# Altium schematic symbol library Power_Management.SchLib: 221 symbols (part 1 of 2)
Pins are listed as number, name and electrical type; pins without a type are passive.

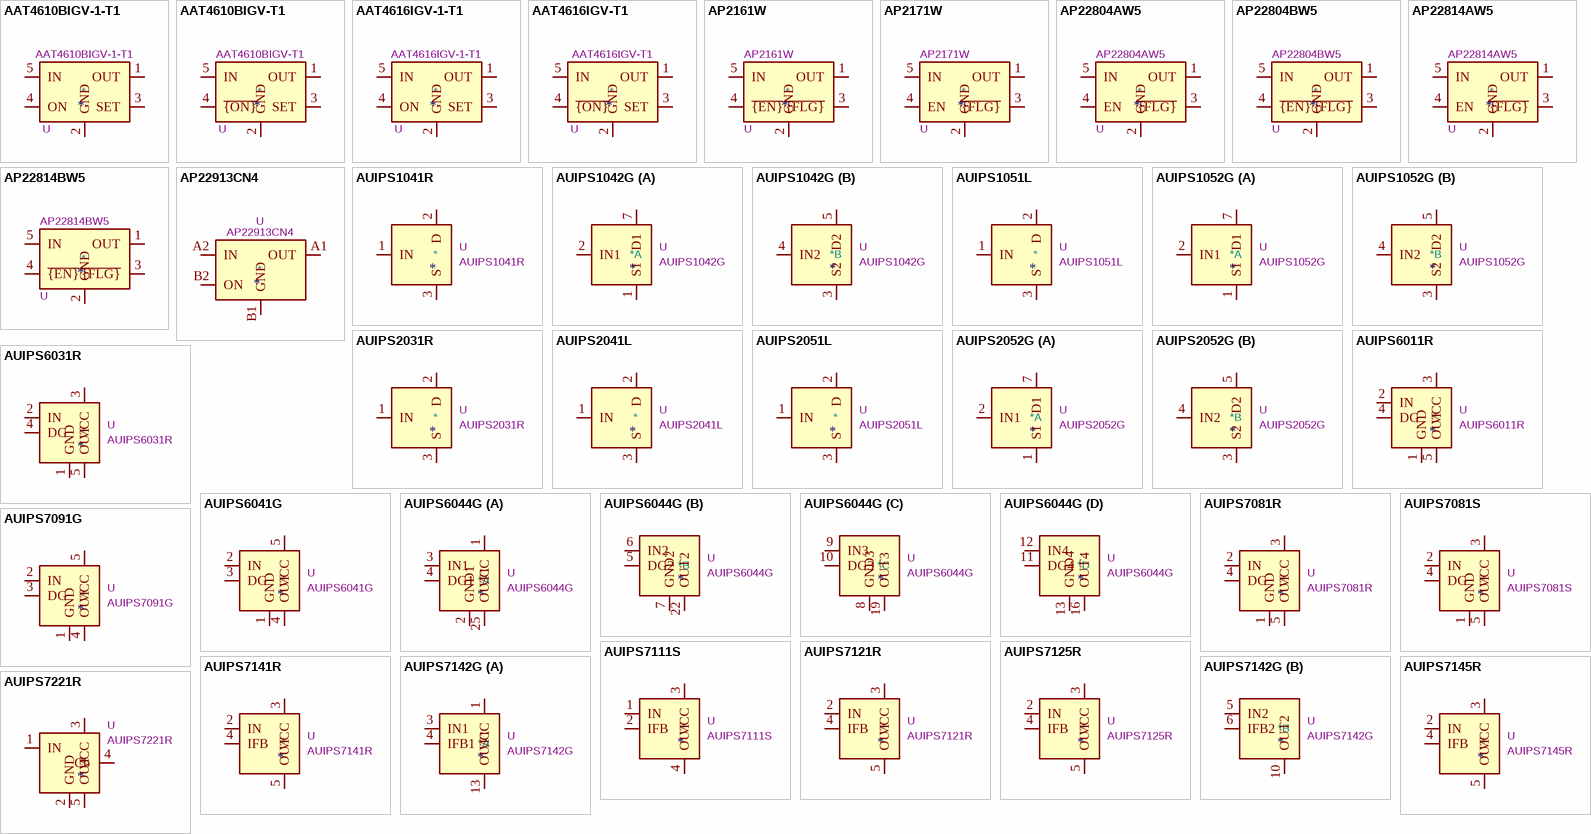
[diagram p0: symbols AAT4610BIGV-1-T1 to AUIPS7221R]

## AAT4610BIGV-1-T1
designator *  value AAT4610BIGV-1-T1  Reference: U
ki_keywords: Limit USB Active High; ki_description: Current Limited Load Switch, SOT-23-5; ki_fp_filters: SOT?23*; Footprint: Package_TO_SOT_SMD:SOT-23-5; Datasheet: http://www.skyworksinc.com/uploads/documents/201937A.pdf
pins: 1 OUT, 2 GND, 3 SET, 4 ON, 5 IN

## AAT4610BIGV-T1
designator *  value AAT4610BIGV-T1  Reference: U
ki_keywords: Limit USB Active Low; ki_description: Current Limited Load Switch, SOT-23-5; ki_fp_filters: SOT?23*; Footprint: Package_TO_SOT_SMD:SOT-23-5; Datasheet: http://www.skyworksinc.com/uploads/documents/201937A.pdf
pins: 1 OUT, 2 GND, 3 SET, 4 ~{{ON}}, 5 IN

## AAT4616IGV-1-T1
designator *  value AAT4616IGV-1-T1  Reference: U
ki_keywords: Limit USB Active High; ki_description: Adjustable Current Limited Load Switch, SOT-23-5; ki_fp_filters: SOT?23*; Footprint: Package_TO_SOT_SMD:SOT-23-5; Datasheet: http://www.skyworksinc.com/uploads/documents/AAT4616_201940E.pdf
pins: 1 OUT, 2 GND, 3 SET, 4 ON, 5 IN

## AAT4616IGV-T1
designator *  value AAT4616IGV-T1  Reference: U
ki_keywords: Limit USB Active Low; ki_description: Adjustable Current Limited Load Switch, SOT-23-5; ki_fp_filters: SOT?23*; Footprint: Package_TO_SOT_SMD:SOT-23-5; Datasheet: http://www.skyworksinc.com/uploads/documents/AAT4616_201940E.pdf
pins: 1 OUT, 2 GND, 3 SET, 4 ~{{ON}}, 5 IN

## AP2161W
designator *  value AP2161W  Reference: U
ki_keywords: Limit USB Active Low; ki_description: Current limited power switch, single channel, SOT-23-5; ki_fp_filters: SOT?23*; Footprint: Package_TO_SOT_SMD:SOT-23-5; Datasheet: https://www.diodes.com/assets/Datasheets/AP2161.pdf
pins: 1 OUT, 2 GND, 3 ~{{FLG}}, 4 ~{{EN}}, 5 IN

## AP2171W
designator *  value AP2171W  Reference: U
ki_keywords: Limit USB Active High; ki_description: Current limited power switch, single channel, SOT-23-5; ki_fp_filters: SOT?23*; Footprint: Package_TO_SOT_SMD:SOT-23-5; Datasheet: https://www.diodes.com/assets/Datasheets/AP2161.pdf
pins: 1 OUT, 2 GND, 3 ~{{FLG}}, 4 EN, 5 IN

## AP22804AW5
designator *  value AP22804AW5  Reference: U
ki_keywords: Limit USB Active High; ki_description: Current limited 2.5A power switch, single channel, SOT-23-5; ki_fp_filters: SOT?23*; Footprint: Package_TO_SOT_SMD:SOT-23-5; Datasheet: https://www.diodes.com/assets/Datasheets/AP22804_14.pdf
pins: 1 OUT, 2 GND, 3 ~{{FLG}}, 4 EN, 5 IN

## AP22804BW5
designator *  value AP22804BW5  Reference: U
ki_keywords: Limit USB Active Low; ki_description: Current limited 2.5A power switch, single channel, SOT-23-5; ki_fp_filters: SOT?23*; Footprint: Package_TO_SOT_SMD:SOT-23-5; Datasheet: https://www.diodes.com/assets/Datasheets/AP22804_14.pdf
pins: 1 OUT, 2 GND, 3 ~{{FLG}}, 4 ~{{EN}}, 5 IN

## AP22814AW5
designator *  value AP22814AW5  Reference: U
ki_keywords: Limit USB Active High; ki_description: Current limited 3A power switch, single channel, SOT-23-5; ki_fp_filters: SOT?23*; Footprint: Package_TO_SOT_SMD:SOT-23-5; Datasheet: https://www.diodes.com/assets/Datasheets/AP22804_14.pdf
pins: 1 OUT, 2 GND, 3 ~{{FLG}}, 4 EN, 5 IN

## AP22814BW5
designator *  value AP22814BW5  Reference: U
ki_keywords: Limit USB Active Low; ki_description: Current limited 3A power switch, single channel, SOT-23-5; ki_fp_filters: SOT?23*; Footprint: Package_TO_SOT_SMD:SOT-23-5; Datasheet: https://www.diodes.com/assets/Datasheets/AP22804_14.pdf
pins: 1 OUT, 2 GND, 3 ~{{FLG}}, 4 ~{{EN}}, 5 IN

## AP22913CN4
designator *  value AP22913CN4  Reference: U
ki_keywords: Lead control switch slew rate; ki_description: Slew rate controlled load switch, WLCSP-4; ki_fp_filters: WLCSP*X1*WLB0909*0.89x0.89*P0.5mm*; Footprint: Package_CSP:WLCSP-4-X1-WLB0909-4_0.89x0.89mm_P0.5mm; Datasheet: https://www.diodes.com/assets/Datasheets/AP22913.pdf
pins: A1 OUT, A2 IN, B1 GND, B2 ON

## AUIPS1041R
designator *  value AUIPS1041R  Reference: U
ki_keywords: low side switch; ki_description: Intelligent Power Low Side Switch, 39V, 4.5A, DPAK-5L; ki_fp_filters: TO?252*; Footprint: Package_TO_SOT_SMD:TO-252-3_TabPin2; Datasheet: https://www.infineon.com/dgdl/Infineon-AUIPS1041-DS-v01_00-EN.pdf?fileId=5546d4625a888733015aae14a0524c63
pins: 1 IN, 2 D, 3 S

## AUIPS1042G
designator *  value AUIPS1042G  Reference: U
ki_keywords: dual low side switch; ki_description: Dual Channel Intelligent Power Low Side Switch, 39V, 4.5A, SOIC-8; ki_fp_filters: SOIC*3.9x4.9mm*P1.27mm*; Footprint: Package_SO:SOIC-8_3.9x4.9mm_P1.27mm; Datasheet: https://www.infineon.com/dgdl/Infineon-AUIPS1041-DS-v01_00-EN.pdf?fileId=5546d4625a888733015aae14a0524c63
part A pins: 1 S1, 2 IN1, 7 D1, 8 D1 hidden
part B pins: 3 S2, 4 IN2, 5 D2, 6 D2 hidden

## AUIPS1051L
designator *  value AUIPS1051L  Reference: U
ki_keywords: low side switch; ki_description: Intelligent Power Low Side Switch, 39V, 2.8A, SOT-223; ki_fp_filters: SOT?223*; Footprint: Package_TO_SOT_SMD:SOT-223-3_TabPin2; Datasheet: https://www.infineon.com/dgdl/auips1051.pdf?fileId=5546d462533600a4015355a4710712fc
pins: 1 IN, 2 D, 3 S

## AUIPS1052G
designator *  value AUIPS1052G  Reference: U
ki_keywords: dual low side switch; ki_description: Dual Channel Intelligent Power Low Side Switch, 39V, 2.8A, SOIC-8; ki_fp_filters: SOIC*3.9x4.9mm*P1.27mm*; Footprint: Package_SO:SOIC-8_3.9x4.9mm_P1.27mm; Datasheet: https://www.infineon.com/dgdl/auips1051.pdf?fileId=5546d462533600a4015355a4710712fc
part A pins: 1 S1, 2 IN1, 7 D1, 8 D1 hidden
part B pins: 3 S2, 4 IN2, 5 D2, 6 D2 hidden

## AUIPS2031R
designator *  value AUIPS2031R  Reference: U
ki_keywords: low side switch; ki_description: Intelligent Power Low Side Switch, 68V, 10A, DPAK-5L; ki_fp_filters: TO?252*; Footprint: Package_TO_SOT_SMD:TO-252-3_TabPin2; Datasheet: https://www.infineon.com/dgdl/Infineon-AUIPS2031R-DS-v01_00-EN.pdf?fileId=5546d4625a888733015aae1488334c5c
pins: 1 IN, 2 D, 3 S

## AUIPS2041L
designator *  value AUIPS2041L  Reference: U
ki_keywords: low side switch; ki_description: Intelligent Power Low Side Switch, 68V, 5A, SOT-223; ki_fp_filters: SOT?223*; Footprint: Package_TO_SOT_SMD:SOT-223-3_TabPin2; Datasheet: https://www.infineon.com/dgdl/Infineon-AUIPS2041-DS-v01_00-EN.pdf?fileId=5546d4625a888733015aae147a9d4c57
pins: 1 IN, 2 D, 3 S

## AUIPS2051L
designator *  value AUIPS2051L  Reference: U
ki_keywords: low side switch; ki_description: Intelligent Power Low Side Switch, 70V, 1.8A, SOT-223; ki_fp_filters: SOT?223*; Footprint: Package_TO_SOT_SMD:SOT-223-3_TabPin2; Datasheet: https://www.infineon.com/dgdl/Infineon-AUIPS2052G-DS-v01_00-EN.pdf?fileId=5546d4625a888733015aae0b6fb04c51
pins: 1 IN, 2 D, 3 S

## AUIPS2052G
designator *  value AUIPS2052G  Reference: U
ki_keywords: dual low side switch; ki_description: Dual Channel Intelligent Power Low Side Switch, 70V, 1.8A, SOIC-8; ki_fp_filters: SOIC*3.9x4.9mm*P1.27mm*; Footprint: Package_SO:SOIC-8_3.9x4.9mm_P1.27mm; Datasheet: https://www.infineon.com/dgdl/Infineon-AUIPS2052G-DS-v01_00-EN.pdf?fileId=5546d4625a888733015aae0b6fb04c51
part A pins: 1 S1, 2 IN1, 7 D1, 8 D1 hidden
part B pins: 3 S2, 4 IN2, 5 D2, 6 D2 hidden

## AUIPS6011R
designator *  value AUIPS6011R  Reference: U
ki_keywords: high side switch; ki_description: Intelligent Power High Side Switch, 39V, 60A, DPAK-5L; ki_fp_filters: TO?252*; Footprint: Package_TO_SOT_SMD:TO-252-4; Datasheet: https://www.infineon.com/dgdl/auips6011.pdf?fileId=5546d462533600a4015355a787bf1309
pins: 1 GND, 2 IN, 3 VCC, 4 DG, 5 OUT

## AUIPS6031R
designator *  value AUIPS6031R  Reference: U
ki_keywords: high side switch; ki_description: Intelligent Power High Side Switch, 39V, 16A, DPAK-5L; ki_fp_filters: TO?252*; Footprint: Package_TO_SOT_SMD:TO-252-4; Datasheet: https://www.infineon.com/dgdl/auips6031.pdf?fileId=5546d462533600a4015355a797f51311
pins: 1 GND, 2 IN, 3 VCC, 4 DG, 5 OUT

## AUIPS6041G
designator *  value AUIPS6041G  Reference: U
ki_keywords: high side switch; ki_description: Intelligent Power High Side Switch, 39V, 7A, SOIC-8; ki_fp_filters: SOIC*3.9x4.9mm*P1.27mm*; Footprint: Package_SO:SOIC-8_3.9x4.9mm_P1.27mm; Datasheet: https://www.infineon.com/dgdl/auips6041.pdf?fileId=5546d462533600a4015355a7a0251315
pins: 1 GND, 2 IN, 3 DG, 4 OUT, 5 VCC, 6 VCC hidden, 7 VCC hidden, 8 VCC hidden

## AUIPS6044G
designator *  value AUIPS6044G  Reference: U
ki_keywords: high side switch; ki_description: Intelligent Power High Side Switch, 39V, 7A, SOIC-28W; ki_fp_filters: SOIC*3.9x4.9mm*P1.27mm*; Footprint: Package_SO:SOIC-8_3.9x4.9mm_P1.27mm; Datasheet: https://www.infineon.com/dgdl/auips6044g.pdf?fileId=5546d462533600a4015355a7a8e4131a
part A pins: 1 VCC, 2 GND1, 3 IN1, 4 DG1, 14 VCC hidden, 15 VCC hidden, 25 OUT1, 26 OUT1 hidden, 27 OUT1 hidden, 28 VCC hidden
part B pins: 5 DG2, 6 IN2, 7 GND2, 22 OUT2, 23 OUT2 hidden, 24 OUT2 hidden
part C pins: 8 GND3, 9 IN3, 10 DG3, 19 OUT3, 20 OUT3 hidden, 21 OUT3 hidden
part D pins: 11 DG4, 12 IN4, 13 GND4, 16 OUT4, 17 OUT4 hidden, 18 OUT4 hidden

## AUIPS7081R
designator *  value AUIPS7081R  Reference: U
ki_keywords: high side switch; ki_description: Intelligent Power High Side Switch, 70V, 5A, DPAK-5L; ki_fp_filters: TO?252*; Footprint: Package_TO_SOT_SMD:TO-252-4; Datasheet: https://www.infineon.com/dgdl/auips7081.pdf?fileId=5546d462533600a4015355a7b8d5131e
pins: 1 GND, 2 IN, 3 VCC, 4 DG, 5 OUT

## AUIPS7081S
designator *  value AUIPS7081S  Reference: U
ki_keywords: high side switch; ki_description: Intelligent Power High Side Switch, 70V, 5A, D2PAK-5L; ki_fp_filters: TO?263*; Footprint: Package_TO_SOT_SMD:TO-263-4; Datasheet: https://www.infineon.com/dgdl/auips7081.pdf?fileId=5546d462533600a4015355a7b8d5131e
pins: 1 GND, 2 IN, 3 VCC, 4 DG, 5 OUT

## AUIPS7091G
designator *  value AUIPS7091G  Reference: U
ki_keywords: high side switch; ki_description: Intelligent Power High Side Switch, 70V, 5A, SOIC-8; ki_fp_filters: SOIC*3.9x4.9mm*P1.27mm*; Footprint: Package_SO:SOIC-8_3.9x4.9mm_P1.27mm; Datasheet: https://www.infineon.com/dgdl/auips7091.pdf?fileId=5546d462533600a4015355a7c0d21322
pins: 1 GND, 2 IN, 3 DG, 4 OUT, 5 VCC, 6 VCC hidden, 7 VCC hidden, 8 VCC hidden

## AUIPS7111S
designator *  value AUIPS7111S  Reference: U
ki_keywords: high side switch; ki_description: Current Sense High Side Switch, 65V, 30A, D2PAK-5L; ki_fp_filters: TO?263*; Footprint: Package_TO_SOT_SMD:TO-263-4; Datasheet: https://www.infineon.com/dgdl/auips7111s.pdf?fileId=5546d462533600a4015355a7c94e1326
pins: 1 IN, 2 IFB, 3 VCC, 4 OUT, 5 OUT hidden

## AUIPS7121R
designator *  value AUIPS7121R  Reference: U
ki_keywords: high side switch; ki_description: Current Sense High Side Switch, 65V, 50A, DPAK-5L; ki_fp_filters: TO?252*; Footprint: Package_TO_SOT_SMD:TO-252-4; Datasheet: http://www.infineon.com/dgdl/auips7121.pdf?fileId=5546d462533600a4015355a7d1721328
pins: 1 NC hidden, 2 IN, 3 VCC, 4 IFB, 5 OUT

## AUIPS7125R
designator *  value AUIPS7125R  Reference: U
ki_keywords: high side switch; ki_description: Current Sense High Side Switch, 65V, 50A, DPAK-5L; ki_fp_filters: TO?252*; Footprint: Package_TO_SOT_SMD:TO-252-4; Datasheet: https://www.infineon.com/dgdl/auips7125.pdf?fileId=5546d462533600a4015355a7d96a132a
pins: 1 NC hidden, 2 IN, 3 VCC, 4 IFB, 5 OUT

## AUIPS7141R
designator *  value AUIPS7141R  Reference: U
ki_keywords: high side switch; ki_description: Current Sense High Side Switch, 65V, 20A, DPAK-5L; ki_fp_filters: TO?252*; Footprint: Package_TO_SOT_SMD:TO-252-4; Datasheet: https://www.infineon.com/dgdl/auips7141.pdf?fileId=5546d462533600a4015355a7e126132c
pins: 1 NC hidden, 2 IN, 3 VCC, 4 IFB, 5 OUT

## AUIPS7142G
designator *  value AUIPS7142G  Reference: U
ki_keywords: dual high side switch; ki_description: Dual Channels Current Sense High Side Switch, 65V, 20A, SOIC-16W; ki_fp_filters: SOIC*W*7.5x10.3mm*P1.27mm*; Footprint: Package_SO:SOIC-16W_7.5x10.3mm_P1.27mm; Datasheet: https://www.infineon.com/dgdl/auips7142g.pdf?fileId=5546d462533600a4015355a7ef451330
part A pins: 1 VCC, 2 VCC hidden, 3 IN1, 4 IFB1, 7 VCC hidden, 8 VCC hidden, 9 VCC hidden, 13 OUT1, 14 OUT1 hidden, 15 OUT1 hidden, 16 VCC hidden
part B pins: 5 IN2, 6 IFB2, 10 OUT2, 11 OUT2 hidden, 12 OUT2 hidden

## AUIPS7145R
designator *  value AUIPS7145R  Reference: U
ki_keywords: high side switch; ki_description: Current Sense High Side Switch, 65V, 20A, DPAK-5L; ki_fp_filters: TO?252*; Footprint: Package_TO_SOT_SMD:TO-252-4; Datasheet: https://www.infineon.com/dgdl/auips7145r.pdf?fileId=5546d462533600a4015355a7ff1a1334
pins: 1 NC hidden, 2 IN, 3 VCC, 4 IFB, 5 OUT

## AUIPS7221R
designator *  value AUIPS7221R  Reference: U
ki_keywords: high side switch; ki_description: PWM Intelligent Power High Side Switch, 75V, 25A, DPAK-5L; ki_fp_filters: TO?252*; Footprint: Package_TO_SOT_SMD:TO-252-4; Datasheet: https://www.infineon.com/dgdl/auips7221r.pdf?fileId=5546d462533600a4015355a80e761338
pins: 1 IN, 2 GND, 3 VCC, 4 Cb, 5 OUT

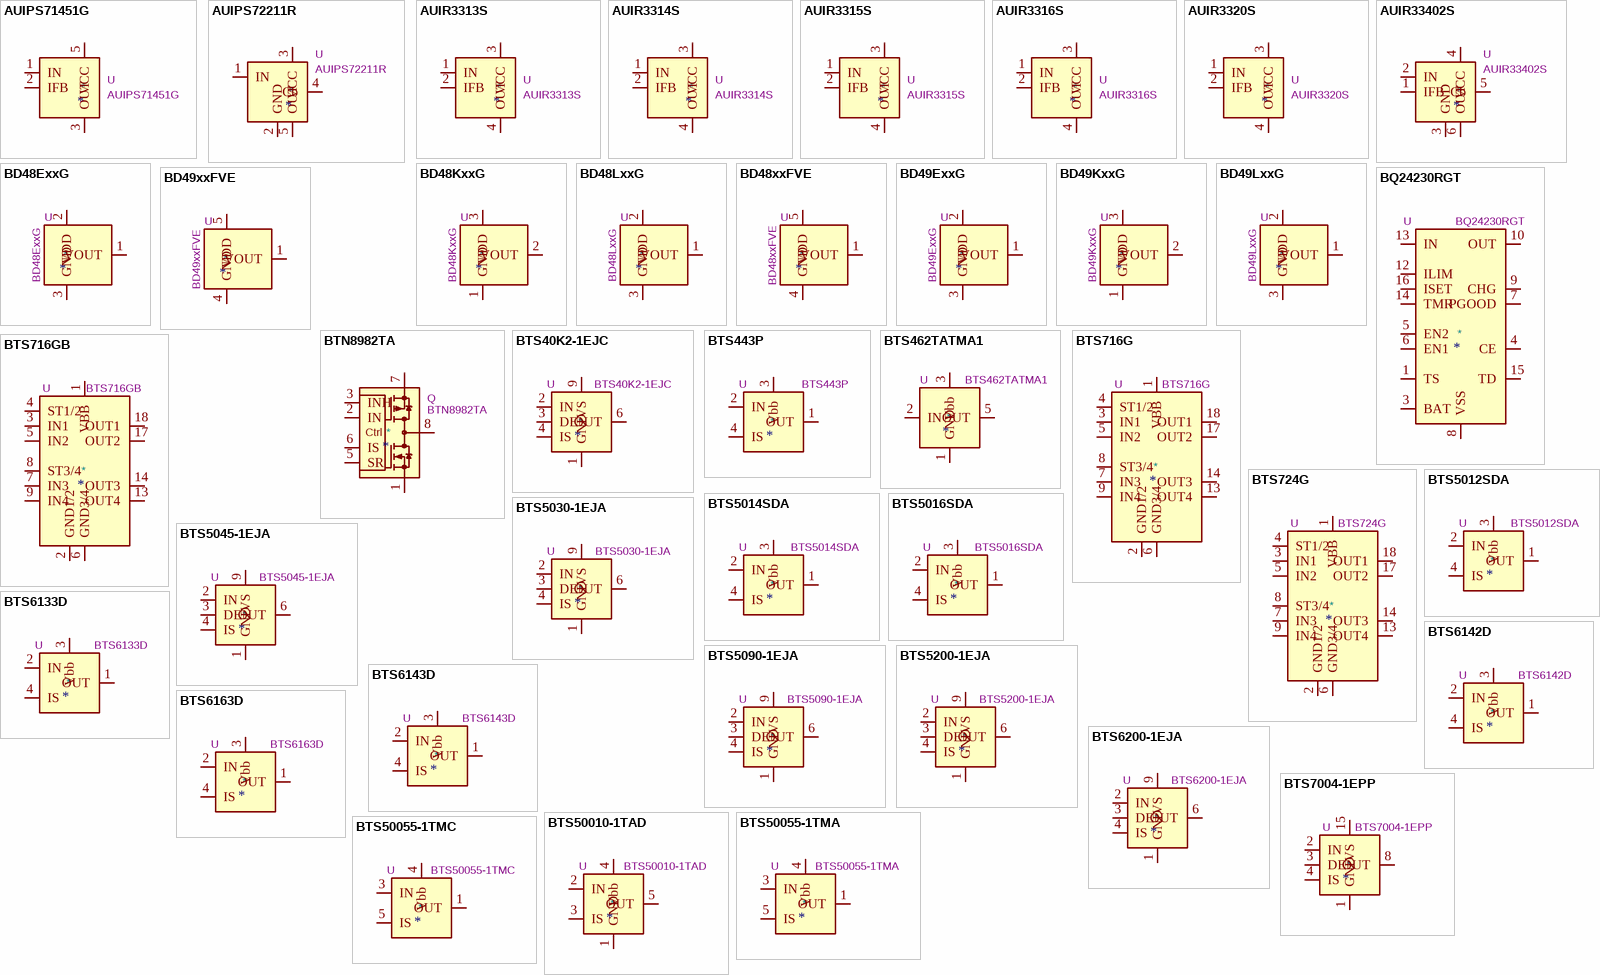
[diagram p1: symbols AUIPS71451G to BTS50055-1TMC]

## AUIPS71451G
designator *  value AUIPS71451G  Reference: U
ki_keywords: high side switch; ki_description: Current Sense High Side Switch, 65V, 4A, SOIC-8; ki_fp_filters: SOIC*3.9x4.9mm*P1.27mm*; Footprint: Package_SO:SOIC-8_3.9x4.9mm_P1.27mm; Datasheet: https://www.infineon.com/dgdl/auips71451g.pdf?fileId=5546d462533600a4015355a7f7461332
pins: 1 IN, 2 IFB, 3 OUT, 4 OUT hidden, 5 VCC, 6 VCC hidden, 7 VCC hidden, 8 VCC hidden

## AUIPS72211R
designator *  value AUIPS72211R  Reference: U
ki_keywords: high side switch; ki_description: Low EMI PWM Intelligent Power High Side Switch, 75V, 20A, DPAK-5L; ki_fp_filters: TO?252*; Footprint: Package_TO_SOT_SMD:TO-252-4; Datasheet: https://www.infineon.com/dgdl/Infineon-AUIPS72211R-DS-v01_10-EN.pdf?fileId=5546d4625a888733015aad6673cb4beb
pins: 1 IN, 2 GND, 3 VCC, 4 Cb, 5 OUT

## AUIR3313S
designator *  value AUIR3313S  Reference: U
ki_keywords: high side switch; ki_description: Programmable Current Sense High Side Switch, 32V, 90A, D2PAK-5L; ki_fp_filters: TO?263*; Footprint: Package_TO_SOT_SMD:TO-263-4; Datasheet: https://www.infineon.com/dgdl/auir3313.pdf?fileId=5546d462533600a4015355a83e2d1347
pins: 1 IN, 2 IFB, 3 VCC, 4 OUT, 5 OUT hidden

## AUIR3314S
designator *  value AUIR3314S  Reference: U
ki_keywords: high side switch; ki_description: Programmable Current Sense High Side Switch, 32V, 58A, D2PAK-5L; ki_fp_filters: TO?263*; Footprint: Package_TO_SOT_SMD:TO-263-4; Datasheet: https://www.infineon.com/dgdl/auir3314.pdf?fileId=5546d462533600a4015355a846b8134a
pins: 1 IN, 2 IFB, 3 VCC, 4 OUT, 5 OUT hidden

## AUIR3315S
designator *  value AUIR3315S  Reference: U
ki_keywords: high side switch; ki_description: Programmable Current Sense High Side Switch, 32V, 30A, D2PAK-5L; ki_fp_filters: TO?263*; Footprint: Package_TO_SOT_SMD:TO-263-4; Datasheet: https://www.infineon.com/dgdl/auir3315.pdf?fileId=5546d462533600a4015355a84eda134d
pins: 1 IN, 2 IFB, 3 VCC, 4 OUT, 5 OUT hidden

## AUIR3316S
designator *  value AUIR3316S  Reference: U
ki_keywords: high side switch; ki_description: Low EMI Current Sense High Side Switch, 26V, 90A, D2PAK-5L; ki_fp_filters: TO?263*; Footprint: Package_TO_SOT_SMD:TO-263-4; Datasheet: https://www.infineon.com/dgdl/auir3316.pdf?fileId=5546d462533600a4015355a856f41350
pins: 1 IN, 2 IFB, 3 VCC, 4 OUT, 5 OUT hidden

## AUIR3320S
designator *  value AUIR3320S  Reference: U
ki_keywords: high side switch; ki_description: Low EMI Current Sense High Side Switch, 26V, 55A, D2PAK-5L; ki_fp_filters: TO?263*; Footprint: Package_TO_SOT_SMD:TO-263-4; Datasheet: https://www.infineon.com/dgdl/auir3320s.pdf?fileId=5546d462533600a4015355a867d01356
pins: 1 IN, 2 IFB, 3 VCC, 4 OUT, 5 OUT hidden

## AUIR33402S
designator *  value AUIR33402S  Reference: U
ki_keywords: high side switch; ki_description: Protected High Side Switch, 18V, 33A, D2PAK-7L; ki_fp_filters: TO?263*TabPin4*; Footprint: Package_TO_SOT_SMD:TO-263-7_TabPin4; Datasheet: https://www.infineon.com/dgdl/auir33402s.pdf?fileId=5546d462533600a4015355a88074135c
pins: 1 IFB, 2 IN, 3 GND, 4 VCC, 5 Cb, 6 OUT, 7 OUT hidden

## BD48ExxG
designator *  value BD48ExxG  Reference: U
ki_keywords: voltage detector open drain SSOP5; ki_description: Standard CMOS Voltage Detector IC, Open Drain Output, SSOP5; ki_fp_filters: *SOT-23*5*; Footprint: Package_TO_SOT_SMD:SOT-23-5; Datasheet: https://www.rohm.de/datasheet/BD4830FVE/bd48xxg-e
pins: 1 VOUT, 2 VDD, 3 GND

## BD48KxxG
designator *  value BD48KxxG  Reference: U
ki_keywords: voltage detector open drain SSOP3; ki_description: Standard CMOS Voltage Detector IC, Open Drain Output, SSOP3(1pin GND); ki_fp_filters: *SOT-23*; Footprint: Package_TO_SOT_SMD:SOT-23; Datasheet: https://www.rohm.de/datasheet/BD4830FVE/bd48xxg-e
pins: 1 GND, 2 VOUT, 3 VDD

## BD48LxxG
designator *  value BD48LxxG  Reference: U
ki_keywords: voltage detector open drain SSOP3; ki_description: Standard CMOS Voltage Detector IC, Open Drain Output, SSOP3(3pin GND); ki_fp_filters: *SOT-23*; Footprint: Package_TO_SOT_SMD:SOT-23; Datasheet: https://www.rohm.de/datasheet/BD4830FVE/bd48xxg-e
pins: 1 VOUT, 2 VDD, 3 GND

## BD48xxFVE
designator *  value BD48xxFVE  Reference: U
ki_keywords: voltage detector open drain VSOF5; ki_description: Standard CMOS Voltage Detector IC, Open Drain Output, VSOF5; ki_fp_filters: *VSOF*5*; Footprint: Package_TO_SOT_SMD:VSOF5; Datasheet: https://www.rohm.de/datasheet/BD4830FVE/bd48xxg-e
pins: 1 VOUT, 2 GND hidden, 4 GND, 5 VDD

## BD49ExxG
designator *  value BD49ExxG  Reference: U
ki_keywords: voltage detector cmos SSOP5; ki_description: Standard CMOS Voltage Detector IC, CMOS Output, SSOP5; ki_fp_filters: *SOT-23*5*; Footprint: Package_TO_SOT_SMD:SOT-23-5; Datasheet: https://www.rohm.de/datasheet/BD4830FVE/bd48xxg-e
pins: 1 VOUT, 2 VDD, 3 GND

## BD49KxxG
designator *  value BD49KxxG  Reference: U
ki_keywords: voltage detector cmos SSOP3; ki_description: Standard CMOS Voltage Detector IC, CMOS Output, SSOP3(1pin GND); ki_fp_filters: *SOT-23*; Footprint: Package_TO_SOT_SMD:SOT-23; Datasheet: https://www.rohm.de/datasheet/BD4830FVE/bd48xxg-e
pins: 1 GND, 2 VOUT, 3 VDD

## BD49LxxG
designator *  value BD49LxxG  Reference: U
ki_keywords: voltage detector cmos SSOP3; ki_description: Standard CMOS Voltage Detector IC, CMOS Output, SSOP3(3pin GND); ki_fp_filters: *SOT-23*; Footprint: Package_TO_SOT_SMD:SOT-23; Datasheet: https://www.rohm.de/datasheet/BD4830FVE/bd48xxg-e
pins: 1 VOUT, 2 VDD, 3 GND

## BD49xxFVE
designator *  value BD49xxFVE  Reference: U
ki_keywords: voltage detector cmos VSOF5; ki_description: Standard CMOS Voltage Detector IC, CMOS Output, VSOF5; ki_fp_filters: *VSOF*5*; Footprint: Package_TO_SOT_SMD:VSOF5; Datasheet: https://www.rohm.de/datasheet/BD4830FVE/bd48xxg-e
pins: 1 VOUT, 2 GND hidden, 4 GND, 5 VDD

## BQ24230RGT
designator *  value BQ24230RGT  Reference: U
ki_keywords: Lithium-ion battery charger; ki_description: USB-Friendly Lithium-Ion Battery Charger And Power-Path Management IC, VQFN-16; ki_fp_filters: VQFN*1EP*3x3mm*P0.5mm*; Footprint: Package_DFN_QFN:VQFN-16-1EP_3x3mm_P0.5mm_EP1.68x1.68mm_ThermalVias; Datasheet: http://www.ti.com/cn/lit/ds/symlink/bq24230.pdf
pins: 1 TS, 2 BAT hidden, 3 BAT, 4 CE, 5 EN2, 6 EN1, 7 PGOOD, 8 VSS, 9 CHG, 10 OUT, 11 OUT hidden, 12 ILIM, 13 IN, 14 TMR, 15 TD, 16 ISET, 17 VSS hidden

## BTN8982TA
designator *  value BTN8982TA  Reference: Q
ki_keywords: half bridge for motor drive applications; ki_description: High Current PN Half Bridge, TO-263-7; ki_fp_filters: TO*263*TabPin8*; Footprint: Package_TO_SOT_SMD:TO-263-7_TabPin8; Datasheet: https://www.infineon.com/dgdl/Infineon-BTN8982TA-DS-v01_00-EN.pdf?fileId=db3a30433fa9412f013fbe32289b7c17
pins: 1, 2 IN, 3 INH, 4 hidden, 5 SR, 6 IS, 7, 8
text: Ctrl

## BTS40K2-1EJC
designator *  value BTS40K2-1EJC  Reference: U
ki_keywords: infineon power switch; ki_description: Smart High-Side Power Switch, PROFET, Single, 200mOhm, 1.5A, 36V, DSO-8; ki_fp_filters: Infineon*PG*DSO*43*; Footprint: Package_SO:Infineon_PG-DSO-8-43; Datasheet: http://www.infineon.com/dgdl/Infineon-BTS40K2-1EJC-DS-v01_00-EN.pdf?fileId=5546d462518ffd85015254ee4e601f99
pins: 1 GND, 2 IN, 3 DEN, 4 IS, 5 NC hidden, 6 OUT, 7 OUT hidden, 8 OUT hidden, 9 VS

## BTS443P
designator *  value BTS443P  Reference: U
ki_keywords: infineon power switch; ki_description: Smart High-Side Power Switch, PROFET, Single, 16mOhm, 7.6A, 36V, TO252-5; ki_fp_filters: TO*252*; Footprint: Package_TO_SOT_SMD:TO-252-4; Datasheet: http://www.infineon.com/dgdl/Infineon-BTS443P-DS-v01_00-EN.pdf?fileId=5546d4625a888733015aa9afbc5035d5
pins: 1 OUT, 2 IN, 3 Vbb, 4 IS, 5 OUT hidden

## BTS462TATMA1
designator *  value BTS462TATMA1  Reference: U
ki_keywords: infineon power load switch; ki_description: Smart High-Side Power Switch, PROFET, Single, 100mOhm, 3.5A, 34V, TO-252-4; ki_fp_filters: TO?252*; Footprint: Package_TO_SOT_SMD:TO-252-4; Datasheet: https://www.infineon.com/dgdl/Infineon-BTS462T-DS-v01_01-EN.pdf?fileId=5546d4625a888733015aa9b0294035f6
pins: 1 GND, 2 IN, 3 Vbb, 4 NC hidden, 5 OUT

## BTS716G
designator *  value BTS716G  Reference: U
ki_keywords: High_Side_Switch Power; ki_description: Smart High-Side Power Switch, PROFET, 4 Channel, 140mOhm, 2.6A, 40V, DSO-20; ki_fp_filters: Infineon*PG*DSO*; Footprint: Package_SO:Infineon_PG-DSO-20-32; Datasheet: https://www.infineon.com/dgdl/Infineon-BTS716G-DS-v01_00-EN.pdf?fileId=5546d4625a888733015aa3be86601004
pins: 1 VBB, 2 GND1/2, 3 IN1, 4 ST1/2, 5 IN2, 6 GND3/4, 7 IN3, 8 ST3/4, 9 IN4, 10 VBB hidden, 11 VBB hidden, 12 VBB hidden, 13 OUT4, 14 OUT3, 15 VBB hidden, 16 VBB hidden, 17 OUT2, 18 OUT1, 19 VBB hidden, 20 VBB hidden

## BTS716GB
designator *  value BTS716GB  Reference: U
ki_keywords: High_Side_Switch Power; ki_description: Smart High-Side Power Switch, PROFET, 4 Channel, 140mOhm, 2.6A, 40V, DSO-20; ki_fp_filters: Infineon*PG*DSO*; Footprint: Package_SO:Infineon_PG-DSO-20-32; Datasheet: https://www.infineon.com/dgdl/Infineon-BTS716GB-DS-v01_00-EN.pdf?fileId=5546d4625a888733015aa3be94e21008
pins: 1 VBB, 2 GND1/2, 3 IN1, 4 ST1/2, 5 IN2, 6 GND3/4, 7 IN3, 8 ST3/4, 9 IN4, 10 VBB hidden, 11 VBB hidden, 12 VBB hidden, 13 OUT4, 14 OUT3, 15 VBB hidden, 16 VBB hidden, 17 OUT2, 18 OUT1, 19 VBB hidden, 20 VBB hidden

## BTS724G
designator *  value BTS724G  Reference: U
ki_keywords: High_Side_Switch Power; ki_description: Smart High-Side Power Switch, PROFET, 4 Channel, 90mOhm, 3.3A, 40V, DSO-20; ki_fp_filters: Infineon*PG*DSO*; Footprint: Package_SO:Infineon_PG-DSO-20-32; Datasheet: https://www.infineon.com/dgdl/Infineon-BTS724G-DS-v01_00-EN.pdf?fileId=5546d4625a888733015aa3a2f1030ff1
pins: 1 VBB, 2 GND1/2, 3 IN1, 4 ST1/2, 5 IN2, 6 GND3/4, 7 IN3, 8 ST3/4, 9 IN4, 10 VBB hidden, 11 VBB hidden, 12 VBB hidden, 13 OUT4, 14 OUT3, 15 VBB hidden, 16 VBB hidden, 17 OUT2, 18 OUT1, 19 VBB hidden, 20 VBB hidden

## BTS5012SDA
designator *  value BTS5012SDA  Reference: U
ki_keywords: infineon power switch; ki_description: Smart High-Side Power Switch, PROFET, Single, 24mOhm, 6.5A, 20V, TO252-5; ki_fp_filters: TO*252*; Footprint: Package_TO_SOT_SMD:TO-252-4; Datasheet: http://www.infineon.com/dgdl/Infineon-BTS5012SDA-DS-v01_01-en.pdf?fileId=db3a30431d8a6b3c011db95c6eba237d
pins: 1 OUT, 2 IN, 3 Vbb, 4 IS, 5 OUT hidden

## BTS5014SDA
designator *  value BTS5014SDA  Reference: U
ki_keywords: infineon power switch; ki_description: Smart High-Side Power Switch, PROFET, Single, 28mOhm, 6A, 20V, TO252-5; ki_fp_filters: TO*252*; Footprint: Package_TO_SOT_SMD:TO-252-4; Datasheet: http://www.infineon.com/dgdl/Infineon-BTS5014SDA-DS-v01_01-EN.pdf?fileId=5546d4625a888733015aa42c708e1142
pins: 1 OUT, 2 IN, 3 Vbb, 4 IS, 5 OUT hidden

## BTS5016SDA
designator *  value BTS5016SDA  Reference: U
ki_keywords: infineon power switch; ki_description: Smart High-Side Power Switch, PROFET, Single, 32mOhm, 5.5A, 20V, TO252-5; ki_fp_filters: TO*252*; Footprint: Package_TO_SOT_SMD:TO-252-4; Datasheet: http://www.infineon.com/dgdl/Infineon-BTS5016SDA-DS-v01_01-EN.pdf?fileId=5546d4625a888733015aa41a6c38112d
pins: 1 OUT, 2 IN, 3 Vbb, 4 IS, 5 OUT hidden

## BTS5030-1EJA
designator *  value BTS5030-1EJA  Reference: U
ki_keywords: infineon power switch; ki_description: Smart High-Side Power Switch, PROFET, Single, 30mOhm, 5A, 28V, DSO-8; ki_fp_filters: Infineon*PG*DSO*43*; Footprint: Package_SO:Infineon_PG-DSO-8-43; Datasheet: http://www.infineon.com/dgdl/Infineon-BTS5030-1EJA-DS-v02_20-EN.pdf?fileId=5546d46259d9a4bf015a84f3e686758a
pins: 1 GND, 2 IN, 3 DEN, 4 IS, 5 NC hidden, 6 OUT, 7 OUT hidden, 8 OUT hidden, 9 VS

## BTS5045-1EJA
designator *  value BTS5045-1EJA  Reference: U
ki_keywords: infineon power switch; ki_description: Smart High-Side Power Switch, PROFET, Single, 45mOhm, 4A, 28V, DSO-8; ki_fp_filters: Infineon*PG*DSO*43*; Footprint: Package_SO:Infineon_PG-DSO-8-43; Datasheet: http://www.infineon.com/dgdl/Infineon-BTS5045-1EJA-DS-v02_02-EN.pdf?fileId=5546d4625a888733015aa411125b1069
pins: 1 GND, 2 IN, 3 DEN, 4 IS, 5 NC hidden, 6 OUT, 7 OUT hidden, 8 OUT hidden, 9 VS

## BTS5090-1EJA
designator *  value BTS5090-1EJA  Reference: U
ki_keywords: infineon power switch; ki_description: Smart High-Side Power Switch, PROFET, Single, 90mOhm, 3A, 28V, DSO-8; ki_fp_filters: Infineon*PG*DSO*43*; Footprint: Package_SO:Infineon_PG-DSO-8-43; Datasheet: http://www.infineon.com/dgdl/Infineon-BTS5090-1EJA-DS-v02_02-EN.pdf?fileId=5546d4625a888733015aa410fc371059
pins: 1 GND, 2 IN, 3 DEN, 4 IS, 5 NC hidden, 6 OUT, 7 OUT hidden, 8 OUT hidden, 9 VS

## BTS5200-1EJA
designator *  value BTS5200-1EJA  Reference: U
ki_keywords: infineon power switch; ki_description: Smart High-Side Power Switch, PROFET, Single, 200mOhm, 1.5A, 28V, DSO-8; ki_fp_filters: Infineon*PG*DSO*43*; Footprint: Package_SO:Infineon_PG-DSO-8-43; Datasheet: http://www.infineon.com/dgdl/Infineon-BTS5200-1EJA-DS-v01_00-EN.pdf?fileId=5546d46250cc1fdf0151636cd945402e
pins: 1 GND, 2 IN, 3 DEN, 4 IS, 5 NC hidden, 6 OUT, 7 OUT hidden, 8 OUT hidden, 9 VS

## BTS6133D
designator *  value BTS6133D  Reference: U
ki_keywords: infineon power switch; ki_description: Smart High-Side Power Switch, PROFET, Single, 10mOhm, 8A, 38V, TO-252-5; ki_fp_filters: TO*252*; Footprint: Package_TO_SOT_SMD:TO-252-4; Datasheet: http://www.infineon.com/dgdl/Infineon-BTS6133D-DS-v01_00-EN.pdf?fileId=5546d4625a888733015aa3e3286f102a
pins: 1 OUT, 2 IN, 3 Vbb, 4 IS, 5 OUT hidden

## BTS6142D
designator *  value BTS6142D  Reference: U
ki_keywords: infineon power switch; ki_description: Smart High-Side Power Switch, PROFET, Single, 12mOhm, 7A, 24V, TO252-5; ki_fp_filters: TO*252*; Footprint: Package_TO_SOT_SMD:TO-252-4; Datasheet: http://www.infineon.com/dgdl/Infineon-BTS6142D-DS-v01_01-EN.pdf?fileId=5546d4625a888733015aa3da1e0e1026
pins: 1 OUT, 2 IN, 3 Vbb, 4 IS, 5 OUT hidden

## BTS6143D
designator *  value BTS6143D  Reference: U
ki_keywords: infineon power switch; ki_description: Smart High-Side Power Switch, PROFET, Single, 10mOhm, 8A, 38V, TO252-5; ki_fp_filters: TO*252*; Footprint: Package_TO_SOT_SMD:TO-252-4; Datasheet: http://www.infineon.com/dgdl/Infineon-BTS6143D-DS-v01_00-EN.pdf?fileId=5546d4625a888733015aa3da10821022
pins: 1 OUT, 2 IN, 3 Vbb, 4 IS, 5 OUT hidden

## BTS6163D
designator *  value BTS6163D  Reference: U
ki_keywords: infineon power switch; ki_description: Smart High-Side Power Switch, PROFET, Single, 20mOhm, 5.5A, 62V, TO252-5; ki_fp_filters: TO*252*; Footprint: Package_TO_SOT_SMD:TO-252-4; Datasheet: http://www.infineon.com/dgdl/Infineon-BTS6163D-DS-v01_00-EN.pdf?fileId=5546d4625a888733015aa3da01a1101e
pins: 1 OUT, 2 IN, 3 Vbb, 4 IS, 5 OUT hidden

## BTS6200-1EJA
designator *  value BTS6200-1EJA  Reference: U
ki_keywords: infineon power switch; ki_description: Smart High-Side Power Switch, PROFET, Single, 200mOhm, 1.5A, 36V, DSO-8; ki_fp_filters: Infineon*PG*DSO*43*; Footprint: Package_SO:Infineon_PG-DSO-8-43; Datasheet: http://www.infineon.com/dgdl/Infineon-BTT6200-1EJA-DS-v01_00-EN.pdf?fileId=5546d4625a888733015aa3756ec20fcc
pins: 1 GND, 2 IN, 3 DEN, 4 IS, 5 NC hidden, 6 OUT, 7 OUT hidden, 8 OUT hidden, 9 VS

## BTS7004-1EPP
designator *  value BTS7004-1EPP  Reference: U
ki_keywords: BTS7004; ki_description: Smart High-Side Power Switch, PROFET, One Channel, 12V, 15A, Rds(on) 4.4mΩ, PG-TSDSO-14-22; ki_fp_filters: Infineon*TSDSO*22*; Footprint: Package_SO:Infineon_PG-TSDSO-14-22; Datasheet: https://www.infineon.com/dgdl/Infineon-BTS7004-1EPP-DS-v01_00-EN.pdf?fileId=5546d4626102d35a016147550a725555
pins: 1 GND, 2 IN, 3 DEN, 4 IS, 5 NC hidden, 6 NC hidden, 7 NC hidden, 8 OUT, 9 OUT hidden, 10 OUT hidden, 11 NC hidden, 12 OUT hidden, 13 OUT hidden, 14 OUT hidden, 15 VS

## BTS50010-1TAD
designator *  value BTS50010-1TAD  Reference: U
ki_keywords: BTS50010 PROFET; ki_description: Smart High-Side Power Switch, PROFET, Single, 1mOhm, 40A, 18V, TO-263-7; ki_fp_filters: TO*263*TabPin4*; Footprint: Package_TO_SOT_SMD:TO-263-7_TabPin4; Datasheet: https://www.infineon.com/dgdl/Infineon-BTS50010-1TAD-DS-v01_00-EN.pdf?fileId=5546d462576f34750157c38810ca55cd
pins: 1 GND, 2 IN, 3 IS, 4 Vbb, 5 OUT, 6 OUT hidden, 7 OUT hidden

## BTS50055-1TMA
designator *  value BTS50055-1TMA  Reference: U
ki_keywords: BTS50055 PROFET; ki_description: Smart High-Side Power Switch, PROFET, Single, 6mOhm, 70A, 34V, TO220-7; ki_fp_filters: TO*263*TabPin4*; Footprint: Package_TO_SOT_SMD:TO-263-7_TabPin4; Datasheet: http://www.infineon.com/dgdl/Infineon-BTS50055-1TMA-DS-v01_00-EN.pdf?fileId=5546d4625a888733015aa9b00de935ed
pins: 1 OUT, 2 OUT hidden, 3 IN, 4 Vbb, 5 IS, 6 OUT hidden, 7 OUT hidden

## BTS50055-1TMC
designator *  value BTS50055-1TMC  Reference: U
ki_keywords: BTS50055 PROFET; ki_description: Smart High-Side Power Switch, PROFET, Single, 6mOhm, 17A, 34V, TO220-7; ki_fp_filters: TO*263*TabPin4*; Footprint: Package_TO_SOT_SMD:TO-263-7_TabPin4; Datasheet: https://www.infineon.com/dgdl/Infineon-BTS50055-1TMC-DS-v01_00-EN.pdf?fileId=5546d4625a888733015aa9b0007235e9
pins: 1 OUT, 2 OUT hidden, 3 IN, 4 Vbb, 5 IS, 6 OUT hidden, 7 OUT hidden

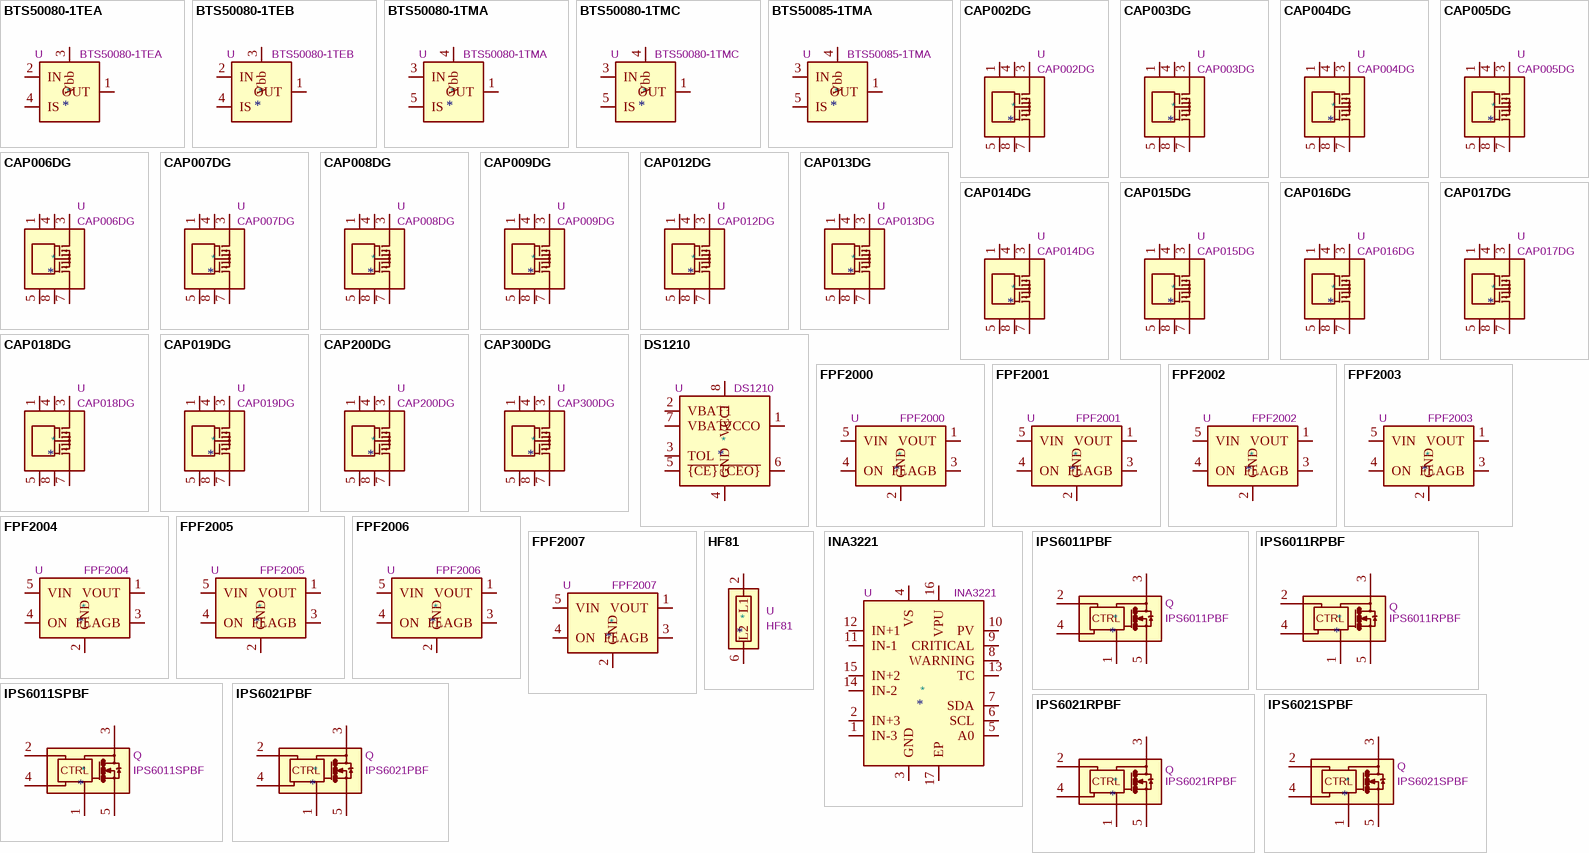
[diagram p2: symbols BTS50080-1TEA to IPS6021SPBF]

## BTS50080-1TEA
designator *  value BTS50080-1TEA  Reference: U
ki_keywords: infineon power switch; ki_description: Smart High-Side Power Switch, PROFET, Single, 16mOhm, 10A, 30V, TO252-5; ki_fp_filters: TO*252*; Footprint: Package_TO_SOT_SMD:TO-252-4; Datasheet: http://www.infineon.com/dgdl/Infineon-BTS50080-1TEA-DS-v01_00-EN.pdf?fileId=5546d4625a888733015aa435f2d2115b
pins: 1 OUT, 2 IN, 3 Vbb, 4 IS, 5 OUT hidden

## BTS50080-1TEB
designator *  value BTS50080-1TEB  Reference: U
ki_keywords: infineon power switch; ki_description: Smart High-Side Power Switch, PROFET, Single, 16mOhm, 10A, 30V, TO252-5; ki_fp_filters: TO*252*; Footprint: Package_TO_SOT_SMD:TO-252-4; Datasheet: https://www.infineon.com/dgdl/Infineon-BTS50080-1TEB-DS-v01_00-EN.pdf?fileId=5546d4625a888733015aa435e5601157
pins: 1 OUT, 2 IN, 3 Vbb, 4 IS, 5 OUT hidden

## BTS50080-1TMA
designator *  value BTS50080-1TMA  Reference: U
ki_keywords: BTS50080 PROFET; ki_description: Smart High-Side Power Switch, PROFET, Single, 16mOhm, 9.5A, 38V, TO220-7; ki_fp_filters: TO*263*TabPin4*; Footprint: Package_TO_SOT_SMD:TO-263-7_TabPin4; Datasheet: https://www.infineon.com/dgdl/Infineon-BTS50080-1TMA-DS-v01_00-EN.pdf?fileId=5546d4625a888733015aa435d7fe1153
pins: 1 OUT, 2 OUT hidden, 3 IN, 4 Vbb, 5 IS, 6 OUT hidden, 7 OUT hidden

## BTS50080-1TMC
designator *  value BTS50080-1TMC  Reference: U
ki_keywords: BTS50080 PROFET; ki_description: Smart High-Side Power Switch, PROFET, Single, 16mOhm, 9.5A, 38V, TO220-7; ki_fp_filters: TO*263*TabPin4*; Footprint: Package_TO_SOT_SMD:TO-263-7_TabPin4; Datasheet: https://www.infineon.com/dgdl/Infineon-BTS50080_1TMC-DS-v01_00-en.pdf?fileId=db3a3043266237920126992737c951ee
pins: 1 OUT, 2 OUT hidden, 3 IN, 4 Vbb, 5 IS, 6 OUT hidden, 7 OUT hidden

## BTS50085-1TMA
designator *  value BTS50085-1TMA  Reference: U
ki_keywords: BTS50085 PROFET; ki_description: Smart High-Side Power Switch, PROFET, Single, 9mOhm, 11.1A, 58V, TO220-7; ki_fp_filters: TO*263*TabPin4*; Footprint: Package_TO_SOT_SMD:TO-263-7_TabPin4; Datasheet: https://www.infineon.com/dgdl/Infineon-BTS50085-1TMA-DS-v01_00-EN.pdf?fileId=5546d4625a888733015aa435bccd114b
pins: 1 OUT, 2 OUT hidden, 3 IN, 4 Vbb, 5 IS, 6 OUT hidden, 7 OUT hidden

## CAP002DG
designator *  value CAP002DG  Reference: U
ki_keywords: Automatic Capacitor Discarger; ki_description: CapZero Automatic Capacitor Discarger, 825V, <=500nF, 1.5MOhm, SOIC-8; ki_fp_filters: SOIC*3.9x4.9mm*P1.27mm*; Footprint: Package_SO:SOIC-8_3.9x4.9mm_P1.27mm; Datasheet: https://ac-dc.power.com/sites/default/files/product-docs/capzero_family_datasheet.pdf
pins: 1, 2 hidden, 3, 4, 5, 6 hidden, 7, 8

## CAP003DG
designator *  value CAP003DG  Reference: U
ki_keywords: Automatic Capacitor Discarger; ki_description: CapZero Automatic Capacitor Discarger, 825V, <=750nF, 1.02MOhm, SOIC-8; ki_fp_filters: SOIC*3.9x4.9mm*P1.27mm*; Footprint: Package_SO:SOIC-8_3.9x4.9mm_P1.27mm; Datasheet: https://ac-dc.power.com/sites/default/files/product-docs/capzero_family_datasheet.pdf
pins: 1, 2 hidden, 3, 4, 5, 6 hidden, 7, 8

## CAP004DG
designator *  value CAP004DG  Reference: U
ki_keywords: Automatic Capacitor Discarger; ki_description: CapZero Automatic Capacitor Discarger, 825V, <=1uF, 780kOhm, SOIC-8; ki_fp_filters: SOIC*3.9x4.9mm*P1.27mm*; Footprint: Package_SO:SOIC-8_3.9x4.9mm_P1.27mm; Datasheet: https://ac-dc.power.com/sites/default/files/product-docs/capzero_family_datasheet.pdf
pins: 1, 2 hidden, 3, 4, 5, 6 hidden, 7, 8

## CAP005DG
designator *  value CAP005DG  Reference: U
ki_keywords: Automatic Capacitor Discarger; ki_description: CapZero Automatic Capacitor Discarger, 825V, <=1.5uF, 480kOhm, SOIC-8; ki_fp_filters: SOIC*3.9x4.9mm*P1.27mm*; Footprint: Package_SO:SOIC-8_3.9x4.9mm_P1.27mm; Datasheet: https://ac-dc.power.com/sites/default/files/product-docs/capzero_family_datasheet.pdf
pins: 1, 2 hidden, 3, 4, 5, 6 hidden, 7, 8

## CAP006DG
designator *  value CAP006DG  Reference: U
ki_keywords: Automatic Capacitor Discarger; ki_description: CapZero Automatic Capacitor Discarger, 825V, <=2uF, 360kOhm, SOIC-8; ki_fp_filters: SOIC*3.9x4.9mm*P1.27mm*; Footprint: Package_SO:SOIC-8_3.9x4.9mm_P1.27mm; Datasheet: https://ac-dc.power.com/sites/default/files/product-docs/capzero_family_datasheet.pdf
pins: 1, 2 hidden, 3, 4, 5, 6 hidden, 7, 8

## CAP007DG
designator *  value CAP007DG  Reference: U
ki_keywords: Automatic Capacitor Discarger; ki_description: CapZero Automatic Capacitor Discarger, 825V, <=2.5uF, 300kOhm, SOIC-8; ki_fp_filters: SOIC*3.9x4.9mm*P1.27mm*; Footprint: Package_SO:SOIC-8_3.9x4.9mm_P1.27mm; Datasheet: https://ac-dc.power.com/sites/default/files/product-docs/capzero_family_datasheet.pdf
pins: 1, 2 hidden, 3, 4, 5, 6 hidden, 7, 8

## CAP008DG
designator *  value CAP008DG  Reference: U
ki_keywords: Automatic Capacitor Discarger 825V; ki_description: CapZero Automatic Capacitor Discarger, 825V, <=3.5uF, 200kOhm, SOIC-8; ki_fp_filters: SOIC*3.9x4.9mm*P1.27mm*; Footprint: Package_SO:SOIC-8_3.9x4.9mm_P1.27mm; Datasheet: https://ac-dc.power.com/sites/default/files/product-docs/capzero_family_datasheet.pdf
pins: 1, 2 hidden, 3, 4, 5, 6 hidden, 7, 8

## CAP009DG
designator *  value CAP009DG  Reference: U
ki_keywords: Automatic Capacitor Discarger; ki_description: CapZero Automatic Capacitor Discarger, 825V, <=5uF, 150kOhm, SOIC-8; ki_fp_filters: SOIC*3.9x4.9mm*P1.27mm*; Footprint: Package_SO:SOIC-8_3.9x4.9mm_P1.27mm; Datasheet: https://ac-dc.power.com/sites/default/files/product-docs/capzero_family_datasheet.pdf
pins: 1, 2 hidden, 3, 4, 5, 6 hidden, 7, 8

## CAP012DG
designator *  value CAP012DG  Reference: U
ki_keywords: Automatic Capacitor Discarger; ki_description: CapZero Automatic Capacitor Discarger, 1000V, <=500nF, 1.5MOhm, SOIC-8; ki_fp_filters: SOIC*3.9x4.9mm*P1.27mm*; Footprint: Package_SO:SOIC-8_3.9x4.9mm_P1.27mm; Datasheet: https://ac-dc.power.com/sites/default/files/product-docs/capzero_family_datasheet.pdf
pins: 1, 2 hidden, 3, 4, 5, 6 hidden, 7, 8

## CAP013DG
designator *  value CAP013DG  Reference: U
ki_keywords: Automatic Capacitor Discarger; ki_description: CapZero Automatic Capacitor Discarger, 1000V, <=750nF, 1.02MOhm, SOIC-8; ki_fp_filters: SOIC*3.9x4.9mm*P1.27mm*; Footprint: Package_SO:SOIC-8_3.9x4.9mm_P1.27mm; Datasheet: https://ac-dc.power.com/sites/default/files/product-docs/capzero_family_datasheet.pdf
pins: 1, 2 hidden, 3, 4, 5, 6 hidden, 7, 8

## CAP014DG
designator *  value CAP014DG  Reference: U
ki_keywords: Automatic Capacitor Discarger; ki_description: CapZero Automatic Capacitor Discarger, 1000V, <=1uF, 780kOhm, SOIC-8; ki_fp_filters: SOIC*3.9x4.9mm*P1.27mm*; Footprint: Package_SO:SOIC-8_3.9x4.9mm_P1.27mm; Datasheet: https://ac-dc.power.com/sites/default/files/product-docs/capzero_family_datasheet.pdf
pins: 1, 2 hidden, 3, 4, 5, 6 hidden, 7, 8

## CAP015DG
designator *  value CAP015DG  Reference: U
ki_keywords: Automatic Capacitor Discarger; ki_description: CapZero Automatic Capacitor Discarger, 1000V, <=1.5uF, 480kOhm, SOIC-8; ki_fp_filters: SOIC*3.9x4.9mm*P1.27mm*; Footprint: Package_SO:SOIC-8_3.9x4.9mm_P1.27mm; Datasheet: https://ac-dc.power.com/sites/default/files/product-docs/capzero_family_datasheet.pdf
pins: 1, 2 hidden, 3, 4, 5, 6 hidden, 7, 8

## CAP016DG
designator *  value CAP016DG  Reference: U
ki_keywords: Automatic Capacitor Discarger; ki_description: CapZero Automatic Capacitor Discarger, 1000V, <=2uF, 360kOhm, SOIC-8; ki_fp_filters: SOIC*3.9x4.9mm*P1.27mm*; Footprint: Package_SO:SOIC-8_3.9x4.9mm_P1.27mm; Datasheet: https://ac-dc.power.com/sites/default/files/product-docs/capzero_family_datasheet.pdf
pins: 1, 2 hidden, 3, 4, 5, 6 hidden, 7, 8

## CAP017DG
designator *  value CAP017DG  Reference: U
ki_keywords: Automatic Capacitor Discarger; ki_description: CapZero Automatic Capacitor Discarger, 1000V, <=2.5uF, 300kOhm, SOIC-8; ki_fp_filters: SOIC*3.9x4.9mm*P1.27mm*; Footprint: Package_SO:SOIC-8_3.9x4.9mm_P1.27mm; Datasheet: https://ac-dc.power.com/sites/default/files/product-docs/capzero_family_datasheet.pdf
pins: 1, 2 hidden, 3, 4, 5, 6 hidden, 7, 8

## CAP018DG
designator *  value CAP018DG  Reference: U
ki_keywords: Automatic Capacitor Discarger; ki_description: CapZero Automatic Capacitor Discarger, 1000V, <=3.5uF, 200kOhm, SOIC-8; ki_fp_filters: SOIC*3.9x4.9mm*P1.27mm*; Footprint: Package_SO:SOIC-8_3.9x4.9mm_P1.27mm; Datasheet: https://ac-dc.power.com/sites/default/files/product-docs/capzero_family_datasheet.pdf
pins: 1, 2 hidden, 3, 4, 5, 6 hidden, 7, 8

## CAP019DG
designator *  value CAP019DG  Reference: U
ki_keywords: Automatic Capacitor Discarger; ki_description: CapZero Automatic Capacitor Discarger, 1000V, <=5uF, 150kOhm, SOIC-8; ki_fp_filters: SOIC*3.9x4.9mm*P1.27mm*; Footprint: Package_SO:SOIC-8_3.9x4.9mm_P1.27mm; Datasheet: https://ac-dc.power.com/sites/default/files/product-docs/capzero_family_datasheet.pdf
pins: 1, 2 hidden, 3, 4, 5, 6 hidden, 7, 8

## CAP200DG
designator *  value CAP200DG  Reference: U
ki_keywords: Automatic Capacitor Discarger; ki_description: CapZero Zero Loss Automatic Capacitor Discharge IC, 1000V, 100nF-6uF, 7.5M-142kOhm, SOIC-8; ki_fp_filters: SOIC*3.9x4.9mm*P1.27mm*; Footprint: Package_SO:SOIC-8_3.9x4.9mm_P1.27mm; Datasheet: https://ac-dc.power.com/sites/default/files/product-docs/capzero-2_family_datasheet.pdf
pins: 1, 2 hidden, 3, 4, 5, 6 hidden, 7, 8

## CAP300DG
designator *  value CAP300DG  Reference: U
ki_keywords: Automatic Capacitor Discarger; ki_description: CapZero Zero Loss Automatic Capacitor Discharge IC, 1000V, 100nF-6uF, >=54kOhm, SOIC-8; ki_fp_filters: SOIC*3.9x4.9mm*P1.27mm*; Footprint: Package_SO:SOIC-8_3.9x4.9mm_P1.27mm; Datasheet: https://ac-dc.power.com/sites/default/files/product_document/data_sheet/capzero-3_family_datasheet.pdf
pins: 1, 2 hidden, 3, 4, 5, 6 hidden, 7, 8

## DS1210
designator *  value DS1210  Reference: U
ki_keywords: Nonvolatile, RAM, Controller, Battery, Power; ki_description: Nonvolatile Controller, PDIP-8; ki_fp_filters: DIP*W7.62mm*; Footprint: Package_DIP:DIP-8_W7.62mm; Datasheet: https://datasheets.maximintegrated.com/en/ds/DS1210.pdf
pins: 1 VCCO, 2 VBAT1, 3 TOL, 4 GND, 5 ~{{CE}}, 6 ~{{CEO}}, 7 VBAT2, 8 VCCI

## FPF2000
designator *  value FPF2000  Reference: U
ki_keywords: 1-chanel power-distribution USB; ki_description: Single power-distribution switcher, current limit = 50mA, blanking time = 10 ms, auto-restart time = 80 ms, ON Pin Polarity = HIGH, SOT-353; ki_fp_filters: SOT?353*; Footprint: Package_TO_SOT_SMD:SOT-353_SC-70-5; Datasheet: https://www.onsemi.com/pub/Collateral/FPF2001-D.pdf
pins: 1 VOUT, 2 GND, 3 FLAGB, 4 ON, 5 VIN

## FPF2001
designator *  value FPF2001  Reference: U
ki_keywords: 1-chanel power-distribution USB; ki_description: Single power-distribution switcher, current limit = 50mA, blanking time = 10 ms, auto-restart time = 80 ms, ON Pin Polarity = LOW, SOT-353; ki_fp_filters: SOT?353*; Footprint: Package_TO_SOT_SMD:SOT-353_SC-70-5; Datasheet: https://www.onsemi.com/pub/Collateral/FPF2001-D.pdf
pins: 1 VOUT, 2 GND, 3 FLAGB, 4 ON, 5 VIN

## FPF2002
designator *  value FPF2002  Reference: U
ki_keywords: 1-chanel power-distribution USB; ki_description: Single power-distribution switcher, current limit = 50mA, blanking time = 10 ms, w/o auto-restart, ON Pin Polarity = HIGH, SOT-353; ki_fp_filters: SOT?353*; Footprint: Package_TO_SOT_SMD:SOT-353_SC-70-5; Datasheet: https://www.onsemi.com/pub/Collateral/FPF2001-D.pdf
pins: 1 VOUT, 2 GND, 3 FLAGB, 4 ON, 5 VIN

## FPF2003
designator *  value FPF2003  Reference: U
ki_keywords: 1-chanel power-distribution USB; ki_description: Single power-distribution switcher, current limit = 50mA, blanking time = 0 ms, w/o auto-restart, ON Pin Polarity = HIGH, SOT-353; ki_fp_filters: SOT?353*; Footprint: Package_TO_SOT_SMD:SOT-353_SC-70-5; Datasheet: https://www.onsemi.com/pub/Collateral/FPF2001-D.pdf
pins: 1 VOUT, 2 GND, 3 FLAGB, 4 ON, 5 VIN

## FPF2004
designator *  value FPF2004  Reference: U
ki_keywords: 1-chanel power-distribution USB; ki_description: Single power-distribution switcher, current limit = 100mA, blanking time = 10 ms, auto-restart time = 80 ms, ON Pin Polarity = HIGH, SOT-353; ki_fp_filters: SOT?353*; Footprint: Package_TO_SOT_SMD:SOT-353_SC-70-5; Datasheet: https://www.onsemi.com/pub/Collateral/FPF2001-D.pdf
pins: 1 VOUT, 2 GND, 3 FLAGB, 4 ON, 5 VIN

## FPF2005
designator *  value FPF2005  Reference: U
ki_keywords: 1-chanel power-distribution USB; ki_description: Single power-distribution switcher, current limit = 100mA, blanking time = 10 ms, auto-restart time = 80 ms, ON Pin Polarity = LOW, SOT-353; ki_fp_filters: SOT?353*; Footprint: Package_TO_SOT_SMD:SOT-353_SC-70-5; Datasheet: https://www.onsemi.com/pub/Collateral/FPF2001-D.pdf
pins: 1 VOUT, 2 GND, 3 FLAGB, 4 ON, 5 VIN

## FPF2006
designator *  value FPF2006  Reference: U
ki_keywords: 1-chanel power-distribution USB; ki_description: Single power-distribution switcher, current limit = 100mA, blanking time = 10 ms, w/o auto-restart, ON Pin Polarity = HIGH, SOT-353; ki_fp_filters: SOT?353*; Footprint: Package_TO_SOT_SMD:SOT-353_SC-70-5; Datasheet: https://www.onsemi.com/pub/Collateral/FPF2001-D.pdf
pins: 1 VOUT, 2 GND, 3 FLAGB, 4 ON, 5 VIN

## FPF2007
designator *  value FPF2007  Reference: U
ki_keywords: 1-chanel power-distribution USB; ki_description: Single power-distribution switcher, current limit = 100mA, blanking time = 0 ms, w/o auto-restart, ON Pin Polarity = HIGH, SOT-353; ki_fp_filters: SOT?353*; Footprint: Package_TO_SOT_SMD:SOT-353_SC-70-5; Datasheet: https://www.onsemi.com/pub/Collateral/FPF2001-D.pdf
pins: 1 VOUT, 2 GND, 3 FLAGB, 4 ON, 5 VIN

## HF81
designator *  value HF81  Reference: U
ki_keywords: X capacitor discharge; ki_description: X capacitor bleeder, SOIC-8; ki_fp_filters: SOIC*3.9x4.9mm*P1.27mm*; Footprint: Package_SO:SOIC-8_3.9x4.9mm_P1.27mm; Datasheet: http://www.monolithicpower.com/DesktopModules/DocumentManage/API/Document/getDocument?id=142
pins: 1 NC hidden, 2 L1, 3 L1 hidden, 4 NC hidden, 5 NC hidden, 6 L2, 7 L2 hidden, 8 NC hidden

## INA3221
designator *  value INA3221  Reference: U
ki_keywords: Shunt and Bus voltage monitor; ki_description: Triple-Channel High-Side Shunt and Bus Voltage Monitor with I2C and SMBUS Compatible Interface, QFN-16; ki_fp_filters: Texas*RGV*S?PVQFN*; Footprint: Package_DFN_QFN:Texas_RGV_S-PVQFN-N16_EP2.1x2.1mm; Datasheet: http://www.ti.com/lit/ds/symlink/ina3221.pdf
pins: 1 IN-3, 2 IN+3, 3 GND, 4 VS, 5 A0, 6 SCL, 7 SDA, 8 WARNING, 9 CRITICAL, 10 PV, 11 IN-1, 12 IN+1, 13 TC, 14 IN-2, 15 IN+2, 16 VPU, 17 EP

## IPS6011PBF
designator *  value IPS6011PBF  Reference: Q
ki_keywords: Intelligent Power Switch High Side MOSFET; ki_description: 39V, 60A, Intelligent Power Switch High Side, TO-220-5; ki_fp_filters: TO?220*; Footprint: Package_TO_SOT_THT:TO-220-5_Vertical; Datasheet: http://www.irf.com/product-info/datasheets/data/ips6011pbf.pdf
pins: 1 GND, 2 IN, 3 VCC, 4 DG, 5 OUT
text: CTRL

## IPS6011RPBF
designator *  value IPS6011RPBF  Reference: Q
ki_keywords: Intelligent Power Switch High Side MOSFET; ki_description: 39V, 60A, Intelligent Power Switch High Side, D-PAK 5pin; ki_fp_filters: TO?252*; Footprint: Package_TO_SOT_SMD:TO-252-5_TabPin3; Datasheet: http://www.irf.com/product-info/datasheets/data/ips6011pbf.pdf
pins: 1 GND, 2 IN, 3 VCC, 4 DG, 5 OUT
text: CTRL

## IPS6011SPBF
designator *  value IPS6011SPBF  Reference: Q
ki_keywords: Intelligent Power Switch High Side MOSFET; ki_description: 39V, 60A, Intelligent Power Switch High Side, D2-PAK 5pin; ki_fp_filters: TO?263*; Footprint: Package_TO_SOT_SMD:TO-263-5_TabPin3; Datasheet: http://www.irf.com/product-info/datasheets/data/ips6011pbf.pdf
pins: 1 GND, 2 IN, 3 VCC, 4 DG, 5 OUT
text: CTRL

## IPS6021PBF
designator *  value IPS6021PBF  Reference: Q
ki_keywords: Intelligent Power Switch High Side MOSFET; ki_description: 39V, 32A, Intelligent Power Switch High Side, TO-220-5; ki_fp_filters: TO?220*; Footprint: Package_TO_SOT_THT:TO-220-5_Vertical; Datasheet: http://www.irf.com/product-info/datasheets/data/ips6021pbf.pdf
pins: 1 GND, 2 IN, 3 VCC, 4 DG, 5 OUT
text: CTRL

## IPS6021RPBF
designator *  value IPS6021RPBF  Reference: Q
ki_keywords: Intelligent Power Switch High Side MOSFET; ki_description: 39V, 32A, Intelligent Power Switch High Side, D-PAK 5pin; ki_fp_filters: TO?252*; Footprint: Package_TO_SOT_SMD:TO-252-5_TabPin3; Datasheet: http://www.irf.com/product-info/datasheets/data/ips6021pbf.pdf
pins: 1 GND, 2 IN, 3 VCC, 4 DG, 5 OUT
text: CTRL

## IPS6021SPBF
designator *  value IPS6021SPBF  Reference: Q
ki_keywords: Intelligent Power Switch High Side MOSFET; ki_description: 39V, 32A, Intelligent Power Switch High Side, D2-PAK 5pin; ki_fp_filters: TO?263*; Footprint: Package_TO_SOT_SMD:TO-263-5_TabPin3; Datasheet: http://www.irf.com/product-info/datasheets/data/ips6021pbf.pdf
pins: 1 GND, 2 IN, 3 VCC, 4 DG, 5 OUT
text: CTRL

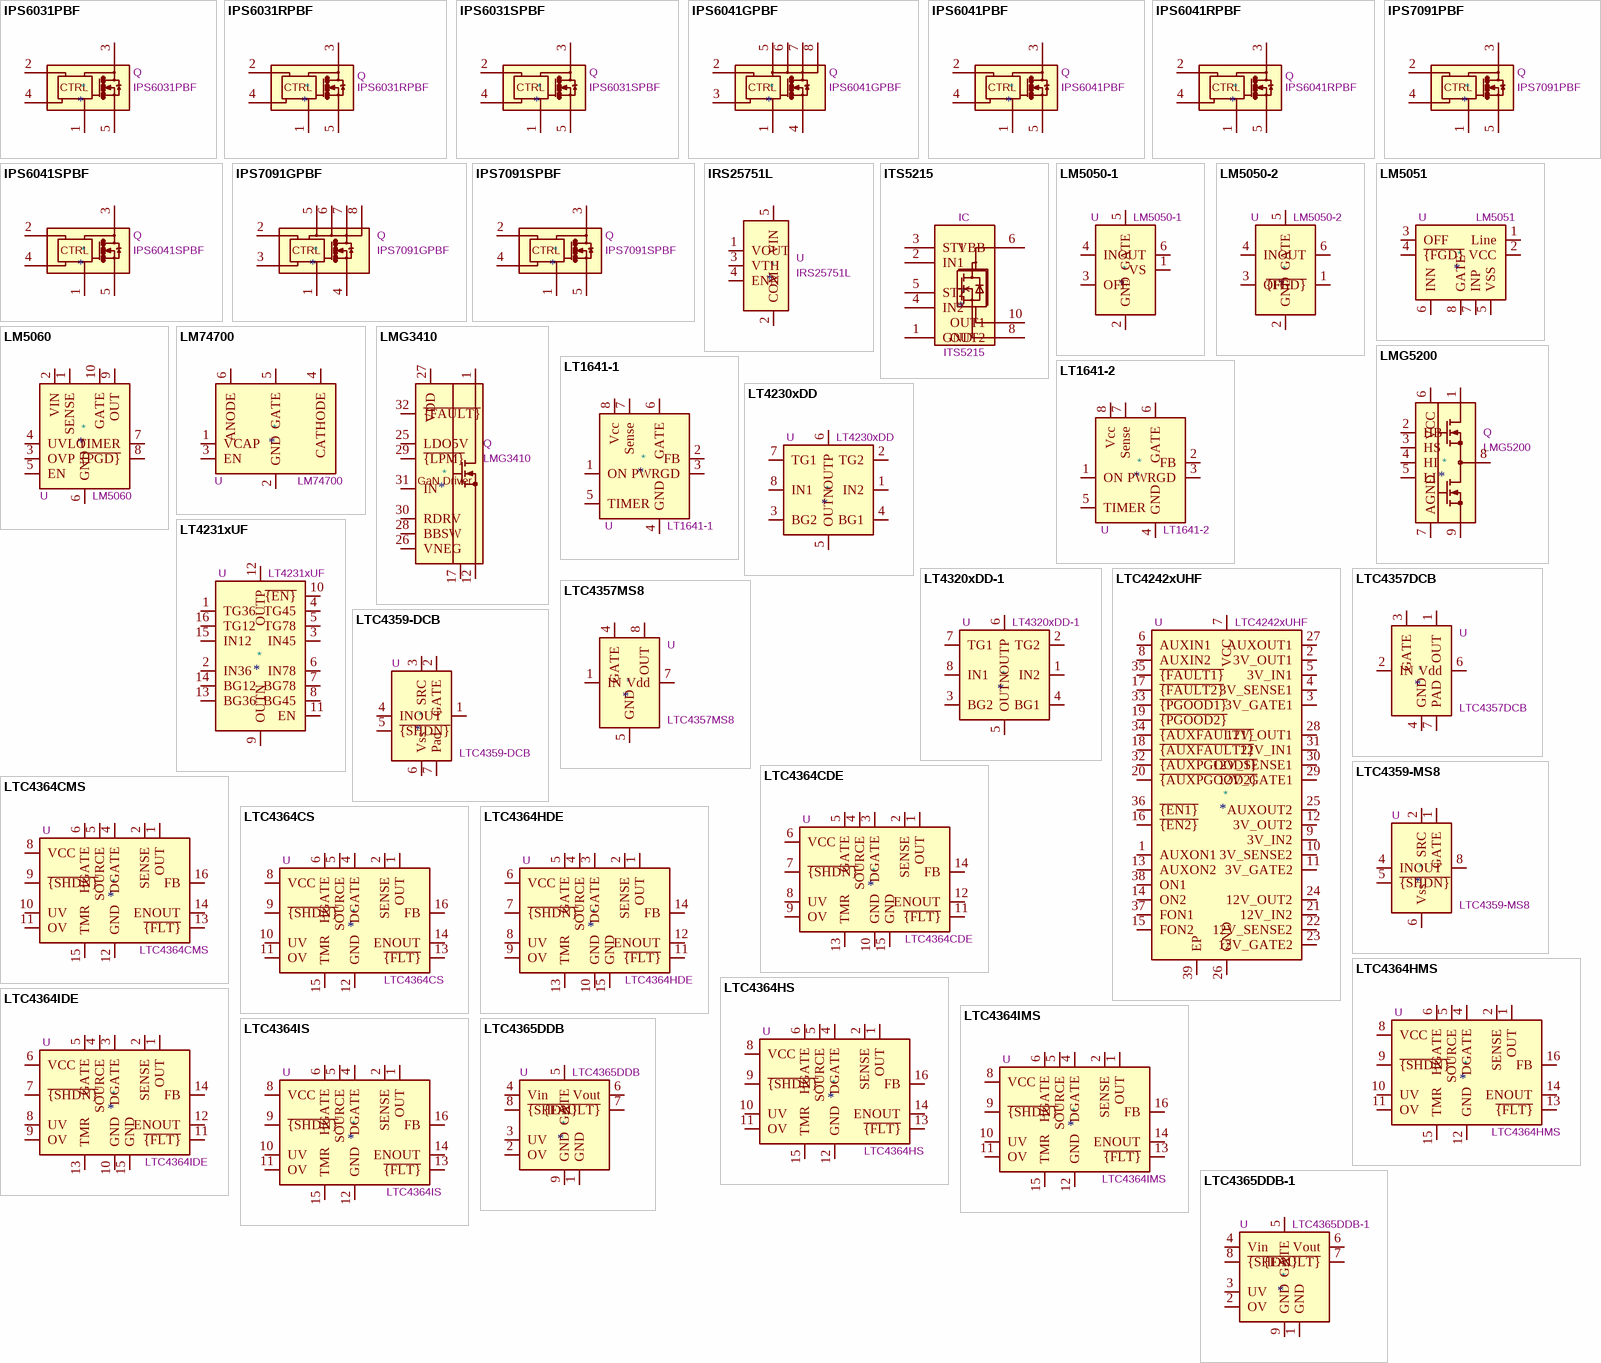
[diagram p3: symbols IPS6031PBF to LTC4365DDB-1]

## IPS6031PBF
designator *  value IPS6031PBF  Reference: Q
ki_keywords: Intelligent Power Switch High Side MOSFET; ki_description: 39V, 16A, Intelligent Power Switch High Side, TO-220-5; ki_fp_filters: TO?220*; Footprint: Package_TO_SOT_THT:TO-220-5_Vertical; Datasheet: http://www.irf.com/product-info/datasheets/data/ips6031pbf.pdf
pins: 1 GND, 2 IN, 3 VCC, 4 DG, 5 OUT
text: CTRL

## IPS6031RPBF
designator *  value IPS6031RPBF  Reference: Q
ki_keywords: Intelligent Power Switch High Side MOSFET; ki_description: 39V, 16A, Intelligent Power Switch High Side, D-PAK 5pin; ki_fp_filters: TO?252*; Footprint: Package_TO_SOT_SMD:TO-252-5_TabPin3; Datasheet: http://www.irf.com/product-info/datasheets/data/ips6031pbf.pdf
pins: 1 GND, 2 IN, 3 VCC, 4 DG, 5 OUT
text: CTRL

## IPS6031SPBF
designator *  value IPS6031SPBF  Reference: Q
ki_keywords: Intelligent Power Switch High Side MOSFET; ki_description: 39V, 16A, Intelligent Power Switch High Side, D2-PAK 5pin; ki_fp_filters: TO?263*; Footprint: Package_TO_SOT_SMD:TO-263-5_TabPin3; Datasheet: http://www.irf.com/product-info/datasheets/data/ips6031pbf.pdf
pins: 1 GND, 2 IN, 3 VCC, 4 DG, 5 OUT
text: CTRL

## IPS6041GPBF
designator *  value IPS6041GPBF  Reference: Q
ki_keywords: Intelligent Power Switch High Side MOSFET; ki_description: 39V, 5A, Intelligent Power Switch High Side, SO-8; ki_fp_filters: SOIC*3.9x4.9mm*P1.27mm*; Footprint: Package_SO:SOIC-8_3.9x4.9mm_P1.27mm; Datasheet: http://www.irf.com/product-info/datasheets/data/ips6041pbf.pdf
pins: 1 GND, 2 IN, 3 DG, 4 OUT, 5 VCC, 6, 7, 8
text: CTRL

## IPS6041PBF
designator *  value IPS6041PBF  Reference: Q
ki_keywords: Intelligent Power Switch High Side MOSFET; ki_description: 39V, 5A, Intelligent Power Switch High Side, TO-220; ki_fp_filters: TO?220*; Footprint: Package_TO_SOT_THT:TO-220-5_Vertical; Datasheet: http://www.irf.com/product-info/datasheets/data/ips6041pbf.pdf
pins: 1 GND, 2 IN, 3 VCC, 4 DG, 5 OUT
text: CTRL

## IPS6041RPBF
designator *  value IPS6041RPBF  Reference: Q
ki_keywords: Intelligent Power Switch High Side MOSFET; ki_description: 39V, 5A, Intelligent Power Switch High Side, DPAK 5pin; ki_fp_filters: TO?252*; Footprint: Package_TO_SOT_SMD:TO-252-5_TabPin3; Datasheet: http://www.irf.com/product-info/datasheets/data/ips6041pbf.pdf
pins: 1 GND, 2 IN, 3 VCC, 4 DG, 5 OUT
text: CTRL

## IPS6041SPBF
designator *  value IPS6041SPBF  Reference: Q
ki_keywords: Intelligent Power Switch High Side MOSFET; ki_description: 39V, 5A, Intelligent Power Switch High Side, D2PAK 5pin; ki_fp_filters: TO?263*; Footprint: Package_TO_SOT_SMD:TO-263-5_TabPin3; Datasheet: http://www.irf.com/product-info/datasheets/data/ips6041pbf.pdf
pins: 1 GND, 2 IN, 3 VCC, 4 DG, 5 OUT
text: CTRL

## IPS7091GPBF
designator *  value IPS7091GPBF  Reference: Q
ki_keywords: Intelligent Power Switch High Side MOSFET; ki_description: 70V, 5A, Intelligent Power Switch High Side, D2-PAK 5pin; ki_fp_filters: SOIC*3.9x4.9mm*P1.27mm*; Footprint: Package_SO:SOIC-8_3.9x4.9mm_P1.27mm; Datasheet: http://www.irf.com/product-info/datasheets/data/ips7091.pdf
pins: 1 GND, 2 IN, 3 DG, 4 OUT, 5 VCC, 6, 7, 8
text: CTRL